# Altium footprint library RPSLib_ElectroMechanical.PcbLib: 54 footprints (part 4 of 4)
Each footprint in its own frame and in the unit in brackets; x right, y up, seen from the top. Pads: shape width x height; smd on the part's side, far side on the other; paste and mask are expansions set on the pad; w line width, h text height; cw(c..) or ccw(c..) is an arc to the next point about the centre after c.
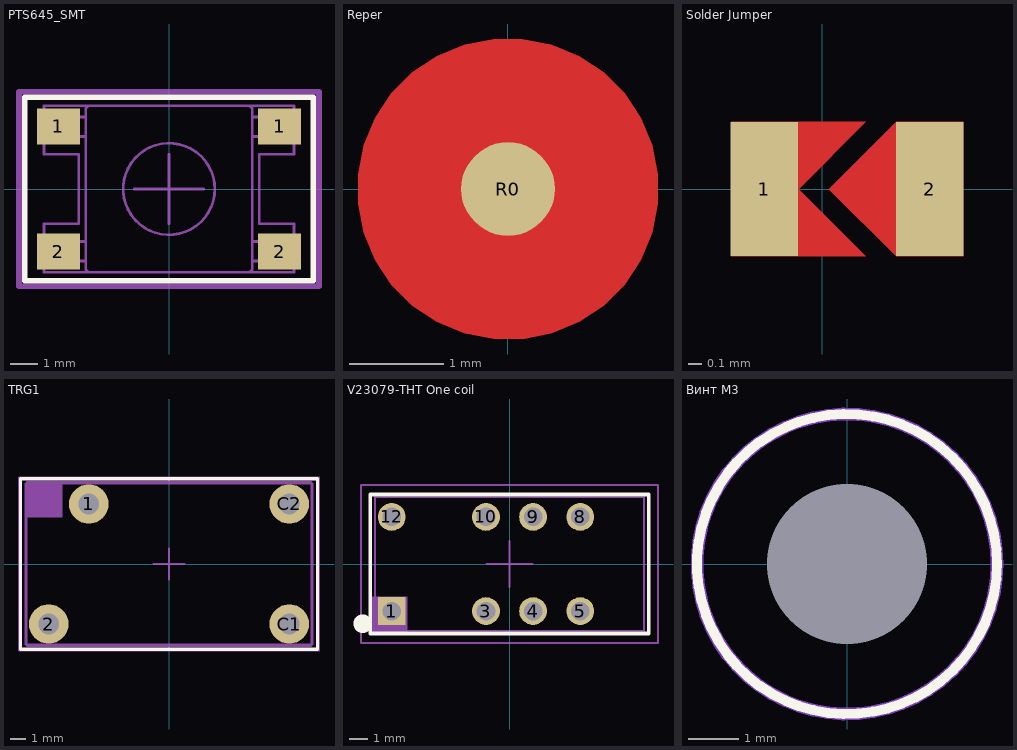
[diagram p3: the footprints below, top view; thin cyan lines are the x and y axes]

## PTS645_SMT [mm] "SMD tactile switch"
height 4.3
pads (4):
  rect 1.55x1.3 smd mask+0.07: 1(-3.98,2.25) 1(3.98,2.25) 2(-3.98,-2.25) 2(3.98,-2.25)
Top Overlay:
  lines w0.2: -5.2,-3.3 -5.2,3.3 5.2,3.3 5.2,-3.3 -5.2,-3.3
Mechanical 1:
  lines w0.1: -4.5,-3 -4.5,-1.25 -3.25,-1.25 -3.25,1.25 -4.5,1.25 -4.5,3 4.5,3 4.5,1.25 3.25,1.25 3.25,-1.25 4.5,-1.25 4.5,-3 -4.5,-3
  text ".Designator" at -1.126,-0.113 h0.5
Mechanical 13:
  circle w0.1: c0,0 r1.65
  lines w0.1: -3,-2.592 -4.5,-2.592 -4.5,-1.892 -3,-1.892 ; -3,1.892 -4.5,1.892 -4.5,2.592 -3,2.592 ; 3,-2.592 4.5,-2.592 4.5,-1.892 3,-1.892 ; 3,1.892 4.5,1.892 4.5,2.592 3,2.592 ; -3,-2.85 ccw(c-2.85,-2.85) -2.85,-3 2.85,-3 ccw(c2.85,-2.85) 3,-2.85 3,2.85 ccw(c2.85,2.85) 2.85,3 -2.85,3 ccw(c-2.85,2.85) -3,2.85 -3,-2.85
Mechanical 15:
  lines w0.1: -1.25,0 1.25,0 ; 0,-1.25 0,1.25
  lines w0.2: -5.4,-3.5 -5.4,3.5 5.4,3.5 5.4,-3.5 -5.4,-3.5
3D body "User Library-PTS645SL43SMTR92-LFS.STEP": height 4.3, standoff 0, extent -4.5,-3 4.5,3

## Reper [mm] "Опорная точка"
height 0.1
pads (1):
  round 1 smd paste-2 mask+1: R0(0,0)
Top Layer:
  pour cut-out: 0,-1.6 -0.158,-1.6 -0.467,-1.538 -0.758,-1.418 -1.02,-1.243 -1.243,-1.02 -1.418,-0.758 -1.538,-0.467 -1.6,-0.158 -1.6,0 -1.6,0.158 -1.538,0.467 -1.418,0.758 -1.243,1.02 -1.02,1.243 -0.758,1.418 -0.467,1.539 -0.158,1.6 0,1.6 0.158,1.6 0.467,1.539 0.758,1.418 1.02,1.243 1.243,1.02 1.418,0.758 1.539,0.467 1.6,0.158 1.6,0 1.6,-0.158 1.539,-0.467 1.418,-0.758 1.243,-1.02 1.02,-1.243 0.758,-1.418 0.467,-1.538 0.158,-1.6

## Solder Jumper [mm]
pads (2):
  rect 0.5x1 smd mask+0.07: 1(-0.432,0) 2(0.8,0)
Top Layer:
  region: 0.05,0 0.55,-0.5 1.05,-0.5 1.05,0.5 0.55,0.5
  region: -0.675,-0.5 -0.675,0.5 0.325,0.5 -0.175,0 0.325,-0.5
Top Solder:
  rectangle: -0.8,-0.6 1.1,0.6

## TRG1 [mm] "TRG1 Relay"
height 15.5
pads (4):
  round 2.5 hole 1.3 mask+0.07: 1(-5.08,3.8) 2(-7.62,-3.8) C1(7.62,-3.8) C2(7.62,3.8)
Top Overlay:
  lines w0.2: -9.4,-5.4 -9.4,5.4 9.4,5.4 9.4,-5.4 -9.4,-5.4
Mechanical 1:
  rectangle: -9,2.95 -6.75,5.2
  lines w0.1: -9,-5.2 -9,5.2 9,5.2 9,-5.2 -9,-5.2
  text ".Designator" at -2.253,-0.226 h1
Mechanical 12:
  lines w0.05: -7.77,-4.3 -7.47,-3.3 ; -7.77,-4.3 -7.77,-3.3 ; -7.77,-4.3 -7.47,-4.3 ; -7.77,-3.3 -7.47,-4.3 ; -7.77,-3.3 -7.47,-3.3 ; -7.47,-4.3 -7.47,-3.3 ; -5.23,3.3 -4.93,4.3 ; -5.23,3.3 -5.23,4.3 ; -5.23,3.3 -4.93,3.3 ; -5.23,4.3 -4.93,3.3 ; -5.23,4.3 -4.93,4.3 ; -4.93,3.3 -4.93,4.3 ; 7.47,-4.3 7.77,-3.3 ; 7.47,-4.3 7.77,-4.3 ; 7.47,-4.3 7.47,-3.3 ; 7.47,-3.3 7.77,-4.3 ; 7.47,-3.3 7.77,-3.3 ; 7.47,3.3 7.77,4.3 ; 7.47,3.3 7.77,3.3 ; 7.47,3.3 7.47,4.3 ; 7.47,4.3 7.77,3.3 ; 7.47,4.3 7.77,4.3 ; 7.77,-4.3 7.77,-3.3 ; 7.77,3.3 7.77,4.3
Mechanical 13:
  lines w0.1: -9.1,-5.1 9.1,-5.1 9.1,5.1 -9.1,5.1 -9.1,-5.1
Mechanical 15:
  lines w0.1: -1,0 1,0 ; 0,-1 0,1 ; -9.5,-5.5 9.5,-5.5 9.5,5.5 -9.5,5.5 -9.5,-5.5
3D body "Реле TRG1.stp": height 15.8, standoff -3.8, extent -9.1,-5.1 9.1,5.1

## V23079-THT One coil [mm] "Tyco P2 relay through hole  1 coil"
height 9.8
pads (8):
  rect 1.5x1.5 hole 1 mask+0.07: 1(-6.35,-2.54)
  round 1.5 hole 1 mask+0.07: 3(-1.27,-2.54) 4(1.27,-2.54) 5(3.81,-2.54) 8(3.81,2.54) 9(1.27,2.54) 10(-1.27,2.54) 12(-6.35,2.54)
Top Overlay:
  circle w0.5: c-7.916,-3.216 r0.25
  lines w0.2: -7.5,-3.75 -7.5,3.75 7.5,3.75 7.5,-3.75 -7.5,-3.75
Mechanical 1:
  rectangle: -7.5,-3.75 -5.5,-1.75
  lines w0.1: -7.5,-3.75 -7.5,3.75 7.5,3.75 7.5,-3.75 -7.5,-3.75
  text ".Designator" at -1.126,-0.113 h0.5
Mechanical 13:
  lines w0.1: -7.25,-3.6 -7.25,3.6 7.25,3.6 7.25,-3.6 -7.25,-3.6
Mechanical 15:
  lines w0.1: -1.25,0 1.25,0 ; 0,-1.25 0,1.25 ; -8,-4.25 8,-4.25 8,4.25 -8,4.25 -8,-4.25
3D body: height 9.8, standoff 0, extent -7.25,-3.6 7.25,3.6

## Винт М3 [mm]
pads (1):
  round 0 hole 3.2 unplated mask+0.07: mh2(0,0)
Top Layer keep-out:
  circle w0.254: c0,0 r3
Bottom Layer keep-out:
  circle w0.254: c0,0 r3
Top Overlay:
  circle w0.2: c0,0 r3
Mechanical 15:
  circle w0.1: c0,0 r3
  lines w0.2: -1.25,0 1.25,0 ; 0,-1.25 0,1.25